# Altium schematic symbol library LM4990MM.Schlib: 1 symbol
Pins are listed as number, name and electrical type; pins without a type are passive.

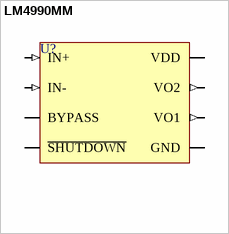
[diagram p0: symbol LM4990MM]

## LM4990MM
designator U?
2-W Mono Audio Power Amplifier
pins: 1 ~{SHUTDOWN}, 2 BYPASS, 3 IN+ (in), 4 IN- (in), 5 VO1 (out), 6 VDD (power), 7 GND (power), 8 VO2 (out)